# Altium integrated library TDK-MLZ-Inductor.IntLib: 12 symbols
Pins are listed as number, name and electrical type; pins without a type are passive.

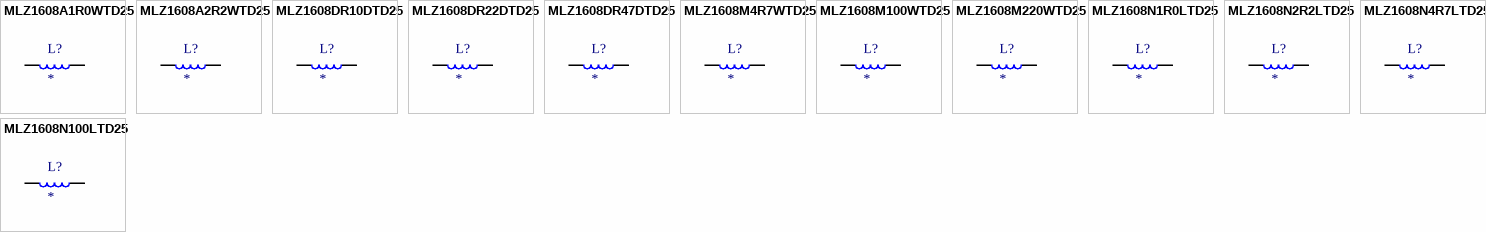
[diagram p0: symbols MLZ1608A1R0WTD25 to MLZ1608N100LTD25]

## MLZ1608A1R0WTD25
designator L?
TDK MLZ Series Inductor / Large Current 1.00uH 600mA
footprint MLZ1608
pins: 1, 2

## MLZ1608A2R2WTD25
designator L?
TDK MLZ Series Inductor / Large Current 2.20uH 500mA
footprint MLZ1608
pins: 1, 2

## MLZ1608DR10DTD25
designator L?
TDK MLZ Series Inductor / High Freq. 0.10uH 850mA
footprint MLZ1608
pins: 1, 2

## MLZ1608DR22DTD25
designator L?
TDK MLZ Series Inductor / High Freq. 0.22uH 600mA
footprint MLZ1608
pins: 1, 2

## MLZ1608DR47DTD25
designator L?
TDK MLZ Series Inductor / High Freq. 0.47uH 500mA
footprint MLZ1608
pins: 1, 2

## MLZ1608M4R7WTD25
designator L?
TDK MLZ Series Inductor / Large Current 4.70uH 350mA
footprint MLZ1608
pins: 1, 2

## MLZ1608M100WTD25
designator L?
TDK MLZ Series Inductor / Large Current 10.0uH 250mA
footprint MLZ1608
pins: 1, 2

## MLZ1608M220WTD25
designator L?
TDK MLZ Series Inductor / Large Current 22.0uH 150mA
footprint MLZ1608
pins: 1, 2

## MLZ1608N1R0LTD25
designator L?
TDK MLZ Series Inductor / Low Resistance 1.00uH 700mA
footprint MLZ1608
pins: 1, 2

## MLZ1608N2R2LTD25
designator L?
TDK MLZ Series Inductor / Low Resistance 2.20uH 500mA
footprint MLZ1608
pins: 1, 2

## MLZ1608N4R7LTD25
designator L?
TDK MLZ Series Inductor / Low Resistance 4.70uH 400mA
footprint MLZ1608
pins: 1, 2

## MLZ1608N100LTD25
designator L?
TDK MLZ Series Inductor / Low Resistance 10.00uH 300mA
footprint MLZ1608
pins: 1, 2